# EAGLE library part FMB2222A (library rfglow-esp32)
FMB2222A
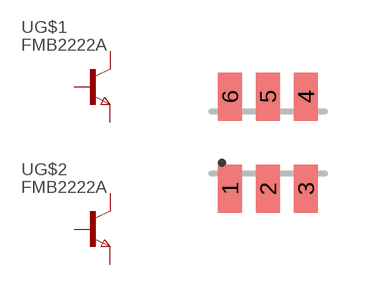
[diagram p4: symbol with the pads of SOT23-6; footprint SOT23-6]

Designator prefix -; gates G$1=NPN G$2=NPN

## FMB2222A (AVAILABILITY: Unavailable; DESCRIPTION: FMB2222 Series 40 V 500 mA NPN Multi-Chip General Purpose Amplifier - SSOT-6; MF: ON Semiconductor; MPN: FMB2222A; PACKAGE: TSOT-23-6 ON Semiconductor; PRICE: None; URL: https://lcsc.com/product-detail/Others_ON-Semicon-ON-FMB2222A_C241828.html)  [SOT23-6]
1  G$1:B  pas
2  G$2:E  pas
3  G$2:B  pas
4  G$2:C  pas
5  G$1:E  pas
6  G$1:C  pas

## Footprint SOT23-6 (pad centres in mm)
smd 0.6 x 1.2: 1 -0.95,-1.15; 2 0,-1.15; 3 0.95,-1.15; 4 0.95,1.15; 5 0,1.15; 6 -0.95,1.15